# Altium footprint library PCB - PASSIVES - IND 0402_1005.PCBLIB: 1 footprints
Each footprint in its own frame and in the unit in brackets; x right, y up, seen from the top. Pads: shape width x height; smd on the part's side, far side on the other; paste and mask are expansions set on the pad; w line width, h text height; cw(c..) or ccw(c..) is an arc to the next point about the centre after c.
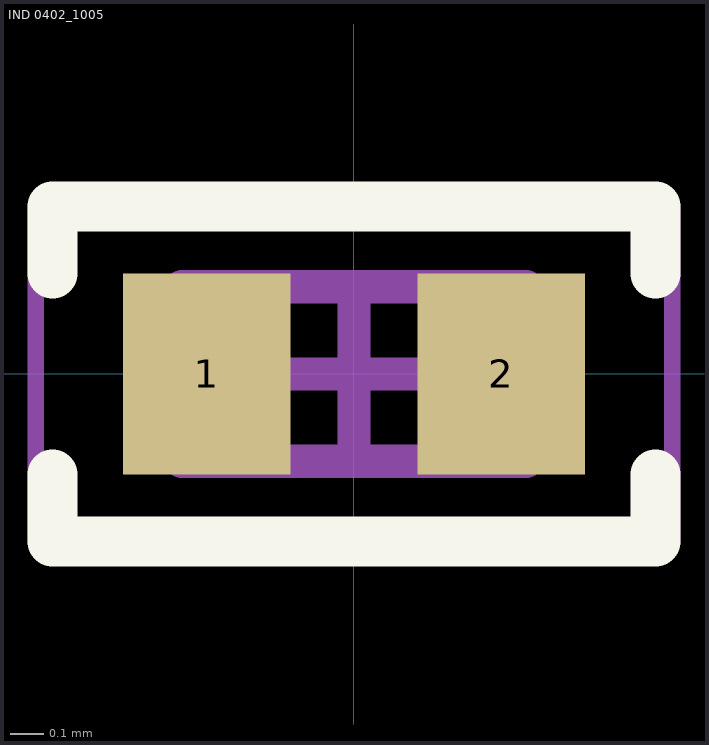
[diagram p0: the footprint, top view; thin cyan lines are the x and y axes]

## IND 0402_1005 [mm] "Inductor, 2-Leads, Body 1.02x0.51mm, IPC Medium Density"
height 0.6
pads (2):
  rect 0.5x0.6 smd: 1(-0.44,0) 2(0.44,0)
Top Overlay:
  lines w0.15: -0.9,-0.3 -0.9,-0.5 0.9,-0.5 0.9,-0.3 ; -0.9,0.3 -0.9,0.5 0.9,0.5 0.9,0.3
Mechanical 13:
  lines w0.1: -0.515,-0.26 0.515,-0.26 0.515,0.26 -0.515,0.26 -0.515,-0.26
Mechanical 15:
  lines w0.05: -0.95,-0.5 0.95,-0.5 0.95,0.5 -0.95,0.5 -0.95,-0.5
  lines w0.1: -0.26,0 0.26,0 ; 0,-0.26 0,0.26
3D body "INDUC 0402.step": height 0.6, standoff 0, extent -0.5,-0.3 0.5,0.3